# Altium integrated library Linear Technology Power Management Power Control.IntLib: 661 symbols (part 22 of 43)
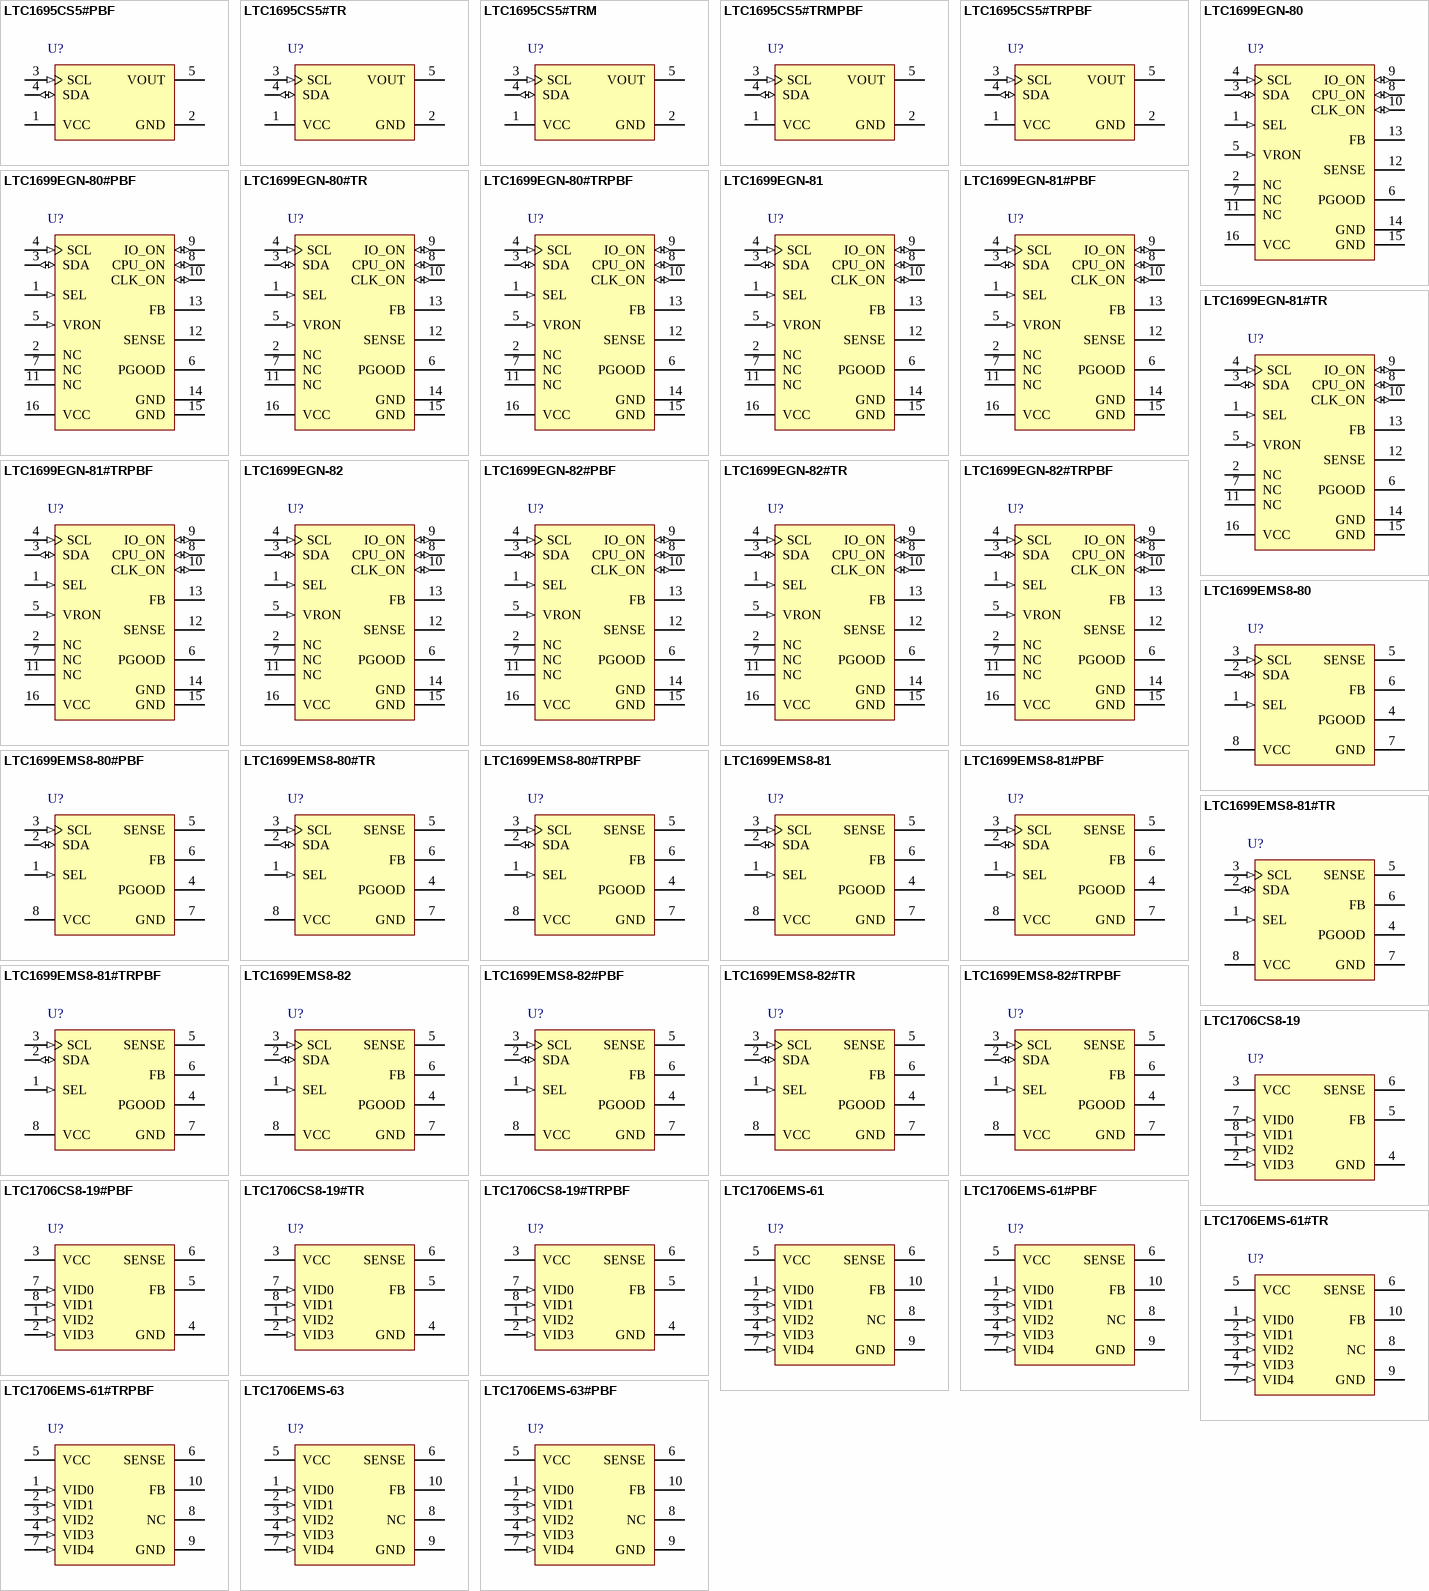
[diagram p40: symbols LTC1695CS5#PBF to LTC1706EMS-63#PBF]

## LTC1695CS5#TRM
designator U?
SMBus / I2C Fan Speed Controller, 5-pin SOT23 (S5-5), 0 to 70 degC, Mini Tape and Reel; Manufacturer: Linear Technology; PartNumber: LTC1695CS5#TRM; PackageVersion: Aug-07; PackageReference: S5-5; PackageDescription: 5-Pin Plastic SOT-23, Body 1.625 x 2.90 mm, Pitch 0.95 mm; Supplier 1: Digi-Key; Supplier Part Number 1: LTC1695CS5#TRM-ND; Packing: Mini Tape and Reel; RoHS: FALSE; Mounting Technology: Surface Mount; ComponentLink1Description: Manufacturer URL; ComponentLink1URL: http://www.linear.com/; ComponentLink2Description: Datasheet; ComponentLink2URL: http://cds.linear.com/docs/en/datasheet/1695f.pdf; ComponentLink3Description: Package Specification; ComponentLink3URL: http://cds.linear.com/docs/en/datasheet/17278fb.pdf
footprint LT-S5-5-SOT-23_N (SOT23, 5-Leads, Body 3x1.75mm, Pitch 0.95mm, IPC Medium Density)
footprint LT-S5-5-SOT-23_L (SOT23, 5-Leads, Body 3x1.75mm, Pitch 0.95mm, IPC High Density)
footprint LT-S5-5-SOT-23_M (SOT23, 5-Leads, Body 3x1.75mm, Pitch 0.95mm, IPC Low Density)
pins: 1 VCC (power) "Power Supply Input. VCC supplies current to the internal control circuitry, serves as the reference for the 6-bit DAC and acts as the power path for the P-channel low dropout linear regulator. Bypass VCC directly to ground (See Datasheet)", 2 GND (power) "Ground. Tie GND to the ground plane.", 3 SCL (in) "SMBus Clock Input. Data is shifted into SDA on the rising edge of the SCL clock signal during data transfer.", 4 SDA (io) "SMBus Bidirectional Data Input/Digital Output. SDA is an open drain output and requires a pull-up resistor or current source to VCC. Data is shifted into SDA and acknowledged by SDA.", 5 VOUT (power) "Linear Regulator Output. Connect directly to the fan’s +VE terminal. VOUT is set to VZS (code 0) on power-up. For good transient response and stability, use a general purpose, low cost, medium ESR (0.1ohm to 1ohm) tantalu(See Datasheet)"

## LTC1695CS5#TRMPBF
designator U?
SMBus / I2C Fan Speed Controller, 5-pin SOT23 (S5-5), 0 to 70 degC, Pb-Free, Mini Tape and Reel; Manufacturer: Linear Technology; PartNumber: LTC1695CS5#TRMPBF; PackageVersion: Aug-07; PackageReference: S5-5; PackageDescription: 5-Pin Plastic SOT-23, Body 1.625 x 2.90 mm, Pitch 0.95 mm; Supplier 1: Digi-Key; Supplier Part Number 1: LTC1695CS5#TRMPBF-ND; Packing: Mini Tape and Reel; RoHS: TRUE; Mounting Technology: Surface Mount; ComponentLink1Description: Manufacturer URL; ComponentLink1URL: http://www.linear.com/; ComponentLink2Description: Datasheet; ComponentLink2URL: http://cds.linear.com/docs/en/datasheet/1695f.pdf; ComponentLink3Description: Package Specification; ComponentLink3URL: http://cds.linear.com/docs/en/datasheet/17278fb.pdf
footprint LT-S5-5-SOT-23_N (SOT23, 5-Leads, Body 3x1.75mm, Pitch 0.95mm, IPC Medium Density)
footprint LT-S5-5-SOT-23_L (SOT23, 5-Leads, Body 3x1.75mm, Pitch 0.95mm, IPC High Density)
footprint LT-S5-5-SOT-23_M (SOT23, 5-Leads, Body 3x1.75mm, Pitch 0.95mm, IPC Low Density)
pins: 1 VCC (power) "Power Supply Input. VCC supplies current to the internal control circuitry, serves as the reference for the 6-bit DAC and acts as the power path for the P-channel low dropout linear regulator. Bypass VCC directly to ground (See Datasheet)", 2 GND (power) "Ground. Tie GND to the ground plane.", 3 SCL (in) "SMBus Clock Input. Data is shifted into SDA on the rising edge of the SCL clock signal during data transfer.", 4 SDA (io) "SMBus Bidirectional Data Input/Digital Output. SDA is an open drain output and requires a pull-up resistor or current source to VCC. Data is shifted into SDA and acknowledged by SDA.", 5 VOUT (power) "Linear Regulator Output. Connect directly to the fan’s +VE terminal. VOUT is set to VZS (code 0) on power-up. For good transient response and stability, use a general purpose, low cost, medium ESR (0.1ohm to 1ohm) tantalu(See Datasheet)"

## LTC1695CS5#TRPBF
designator U?
SMBus / I2C Fan Speed Controller, 5-pin SOT23 (S5-5), 0 to 70 degC, Pb-Free, Tape and Reel; Manufacturer: Linear Technology; PartNumber: LTC1695CS5#TRPBF; PackageVersion: Aug-07; PackageReference: S5-5; PackageDescription: 5-Pin Plastic SOT-23, Body 1.625 x 2.90 mm, Pitch 0.95 mm; Supplier 1: Digi-Key; Supplier Part Number 1: LTC1695CS5#TRPBF-ND; Supplier 2: Newark; Supplier Part Number 2: 56M3273; Packing: Tape and Reel; RoHS: TRUE; Mounting Technology: Surface Mount; ComponentLink1Description: Manufacturer URL; ComponentLink1URL: http://www.linear.com/; ComponentLink2Description: Datasheet; ComponentLink2URL: http://cds.linear.com/docs/en/datasheet/1695f.pdf; ComponentLink3Description: Package Specification; ComponentLink3URL: http://cds.linear.com/docs/en/datasheet/17278fb.pdf
footprint LT-S5-5-SOT-23_N (SOT23, 5-Leads, Body 3x1.75mm, Pitch 0.95mm, IPC Medium Density)
footprint LT-S5-5-SOT-23_L (SOT23, 5-Leads, Body 3x1.75mm, Pitch 0.95mm, IPC High Density)
footprint LT-S5-5-SOT-23_M (SOT23, 5-Leads, Body 3x1.75mm, Pitch 0.95mm, IPC Low Density)
pins: 1 VCC (power) "Power Supply Input. VCC supplies current to the internal control circuitry, serves as the reference for the 6-bit DAC and acts as the power path for the P-channel low dropout linear regulator. Bypass VCC directly to ground (See Datasheet)", 2 GND (power) "Ground. Tie GND to the ground plane.", 3 SCL (in) "SMBus Clock Input. Data is shifted into SDA on the rising edge of the SCL clock signal during data transfer.", 4 SDA (io) "SMBus Bidirectional Data Input/Digital Output. SDA is an open drain output and requires a pull-up resistor or current source to VCC. Data is shifted into SDA and acknowledged by SDA.", 5 VOUT (power) "Linear Regulator Output. Connect directly to the fan’s +VE terminal. VOUT is set to VZS (code 0) on power-up. For good transient response and stability, use a general purpose, low cost, medium ESR (0.1ohm to 1ohm) tantalu(See Datasheet)"

## LTC1699EGN-80
designator U?
SMBus VID Programmer, 2.7 to 5.5 V Vin, 16-pin SOP (GN-16), -40 to 85 degC; Manufacturer: Linear Technology; PartNumber: LTC1699EGN-80; PackageVersion: Rev. B, 03/2012; PackageReference: GN-16; PackageDescription: 16-Pin Plastic SSOP, Body 4.9 x 3.9 mm, Pitch 0.635 mm; Supplier 1: Digi-Key; Supplier Part Number 1: LTC1699EGN-80-ND; RoHS: FALSE; Mounting Technology: Surface Mount; ComponentLink1Description: Manufacturer URL; ComponentLink1URL: http://www.linear.com/; ComponentLink2Description: Datasheet; ComponentLink2URL: http://cds.linear.com/docs/en/datasheet/1699fs.pdf; ComponentLink3Description: Package Specification; ComponentLink3URL: http://cds.linear.com/docs/en/packaging/05081641_B_GN16.pdf
footprint LT-GN-16_N (SOP, 16-Leads, Body 5x4mm, Pitch 0.635mm, IPC Medium Density)
footprint LT-GN-16_L (SOP, 16-Leads, Body 5x4mm, Pitch 0.635mm, IPC High Density)
footprint LT-GN-16_M (SOP, 16-Leads, Body 5x4mm, Pitch 0.635mm, IPC Low Density)
pins: 1 SEL (in) "Register Select Input. A TTL compatible logic input pin that is used to select 1 of 2 resistor divider settings. SEL selects the setting in Register 0 if pulled low and the setting in Register 1 if pulled high.", 2 NC "Not connected.", 3 SDA (io) "SMBus Data Input/Output. SDA is a high impedance input when address, command or data bits are shifted in. It is an open drain, N-channel output when acknowledging or sending data back to the microprocessor during read-back. (See Datasheet)", 4 SCL (in) "SMBus Clock Input. Data at the SDA pin is latched into the LTC1699 at the rising edge of the clock and is shifted out of the SDA pin at the falling edge of the clock. SCL is a high impedance input pin. It is driven by the (See Datasheet)", 5 VRON (in) "Global Control Input. This TTL compatible input pin is pulled up internally by a 2.5mA current source. Pulling VRON low forces the open drain output pins (CPU_ON, IO_ON, CLK_ON and PGOOD) to pull to ground. If the (See Datasheet)", 6 PGOOD (hiz) "Power Good Output. This open drain output is pulled low for 50ms each time the LTC1699-80, LTC1699-81 or LTC1699-82 turns on the DC/DC converters or SEL is toggled to select a new code. PGOOD may be connected to the FCB (See Datasheet)", 7 NC "Not connected.", 8 CPU_ON (io) "CPU DC/DC Converter Control. Open drain output, usually connected to the RUN/SS pin of a DC/ DC converter that generates the CPU core supply. It pulls low to shut down the converter or becomes a high impedance state to allow (See Datasheet)", 9 IO_ON (io) "I/O DC/DC Converter Control. Open drain output, normally connected to the RUN/SS pin of the DC/ DC converter that generates the I/O supply. It pulls low to shut down the converter or becomes a high impedance state to allow (See Datasheet)", 10 CLK_ON (io) "Clock DC/DC Converter Control. Open drain output, optionally connected to the RUN/SS pin of the DC/DC converter that generates the supply for the clock buffer. It pulls low to shut down the converter or becomes a high (See Datasheet)", 11 NC "Not connected.", 12 SENSE "Sense Input. Upper terminal of the resistor divider that is connected directly to the output voltage being regulated.", 13 FB "Feedback Input. Center tap of the divider that is connected to the feedback pin of an LTC 0.8V referenced DC/DC converter.", 14 GND (power) "Ground. Connect to regulator signal ground.", 15 GND (power) "Divider Ground. Short to Pin 14.", 16 VCC (power) "Positive Supply. 2.7V =< VCC =< 5.5V. Bypass this pin to ground with a 0.1uF ceramic capacitor."

## LTC1699EGN-80#PBF
designator U?
SMBus VID Programmer, 2.7 to 5.5 V Vin, 16-pin SOP (GN-16), -40 to 85 degC, Pb-Free; Manufacturer: Linear Technology; PartNumber: LTC1699EGN-80#PBF; PackageVersion: Rev. B, 03/2012; PackageReference: GN-16; PackageDescription: 16-Pin Plastic SSOP, Body 4.9 x 3.9 mm, Pitch 0.635 mm; Supplier 1: Digi-Key; Supplier Part Number 1: LTC1699EGN-80#PBF-ND; RoHS: TRUE; Mounting Technology: Surface Mount; ComponentLink1Description: Manufacturer URL; ComponentLink1URL: http://www.linear.com/; ComponentLink2Description: Datasheet; ComponentLink2URL: http://cds.linear.com/docs/en/datasheet/1699fs.pdf; ComponentLink3Description: Package Specification; ComponentLink3URL: http://cds.linear.com/docs/en/packaging/05081641_B_GN16.pdf
footprint LT-GN-16_N (SOP, 16-Leads, Body 5x4mm, Pitch 0.635mm, IPC Medium Density)
footprint LT-GN-16_L (SOP, 16-Leads, Body 5x4mm, Pitch 0.635mm, IPC High Density)
footprint LT-GN-16_M (SOP, 16-Leads, Body 5x4mm, Pitch 0.635mm, IPC Low Density)
pins: 1 SEL (in) "Register Select Input. A TTL compatible logic input pin that is used to select 1 of 2 resistor divider settings. SEL selects the setting in Register 0 if pulled low and the setting in Register 1 if pulled high.", 2 NC "Not connected.", 3 SDA (io) "SMBus Data Input/Output. SDA is a high impedance input when address, command or data bits are shifted in. It is an open drain, N-channel output when acknowledging or sending data back to the microprocessor during read-back. (See Datasheet)", 4 SCL (in) "SMBus Clock Input. Data at the SDA pin is latched into the LTC1699 at the rising edge of the clock and is shifted out of the SDA pin at the falling edge of the clock. SCL is a high impedance input pin. It is driven by the (See Datasheet)", 5 VRON (in) "Global Control Input. This TTL compatible input pin is pulled up internally by a 2.5mA current source. Pulling VRON low forces the open drain output pins (CPU_ON, IO_ON, CLK_ON and PGOOD) to pull to ground. If the (See Datasheet)", 6 PGOOD (hiz) "Power Good Output. This open drain output is pulled low for 50ms each time the LTC1699-80, LTC1699-81 or LTC1699-82 turns on the DC/DC converters or SEL is toggled to select a new code. PGOOD may be connected to the FCB (See Datasheet)", 7 NC "Not connected.", 8 CPU_ON (io) "CPU DC/DC Converter Control. Open drain output, usually connected to the RUN/SS pin of a DC/ DC converter that generates the CPU core supply. It pulls low to shut down the converter or becomes a high impedance state to allow (See Datasheet)", 9 IO_ON (io) "I/O DC/DC Converter Control. Open drain output, normally connected to the RUN/SS pin of the DC/ DC converter that generates the I/O supply. It pulls low to shut down the converter or becomes a high impedance state to allow (See Datasheet)", 10 CLK_ON (io) "Clock DC/DC Converter Control. Open drain output, optionally connected to the RUN/SS pin of the DC/DC converter that generates the supply for the clock buffer. It pulls low to shut down the converter or becomes a high (See Datasheet)", 11 NC "Not connected.", 12 SENSE "Sense Input. Upper terminal of the resistor divider that is connected directly to the output voltage being regulated.", 13 FB "Feedback Input. Center tap of the divider that is connected to the feedback pin of an LTC 0.8V referenced DC/DC converter.", 14 GND (power) "Ground. Connect to regulator signal ground.", 15 GND (power) "Divider Ground. Short to Pin 14.", 16 VCC (power) "Positive Supply. 2.7V =< VCC =< 5.5V. Bypass this pin to ground with a 0.1uF ceramic capacitor."

## LTC1699EGN-80#TR
designator U?
SMBus VID Programmer, 2.7 to 5.5 V Vin, 16-pin SOP (GN-16), -40 to 85 degC, Tape and Reel; Manufacturer: Linear Technology; PartNumber: LTC1699EGN-80#TR; PackageVersion: Rev. B, 03/2012; PackageReference: GN-16; PackageDescription: 16-Pin Plastic SSOP, Body 4.9 x 3.9 mm, Pitch 0.635 mm; Supplier 1: Digi-Key; Supplier Part Number 1: LTC1699EGN-80#TR-ND; Packing: Tape and Reel; RoHS: FALSE; Mounting Technology: Surface Mount; ComponentLink1Description: Manufacturer URL; ComponentLink1URL: http://www.linear.com/; ComponentLink2Description: Datasheet; ComponentLink2URL: http://cds.linear.com/docs/en/datasheet/1699fs.pdf; ComponentLink3Description: Package Specification; ComponentLink3URL: http://cds.linear.com/docs/en/packaging/05081641_B_GN16.pdf
footprint LT-GN-16_N (SOP, 16-Leads, Body 5x4mm, Pitch 0.635mm, IPC Medium Density)
footprint LT-GN-16_L (SOP, 16-Leads, Body 5x4mm, Pitch 0.635mm, IPC High Density)
footprint LT-GN-16_M (SOP, 16-Leads, Body 5x4mm, Pitch 0.635mm, IPC Low Density)
pins: 1 SEL (in) "Register Select Input. A TTL compatible logic input pin that is used to select 1 of 2 resistor divider settings. SEL selects the setting in Register 0 if pulled low and the setting in Register 1 if pulled high.", 2 NC "Not connected.", 3 SDA (io) "SMBus Data Input/Output. SDA is a high impedance input when address, command or data bits are shifted in. It is an open drain, N-channel output when acknowledging or sending data back to the microprocessor during read-back. (See Datasheet)", 4 SCL (in) "SMBus Clock Input. Data at the SDA pin is latched into the LTC1699 at the rising edge of the clock and is shifted out of the SDA pin at the falling edge of the clock. SCL is a high impedance input pin. It is driven by the (See Datasheet)", 5 VRON (in) "Global Control Input. This TTL compatible input pin is pulled up internally by a 2.5mA current source. Pulling VRON low forces the open drain output pins (CPU_ON, IO_ON, CLK_ON and PGOOD) to pull to ground. If the (See Datasheet)", 6 PGOOD (hiz) "Power Good Output. This open drain output is pulled low for 50ms each time the LTC1699-80, LTC1699-81 or LTC1699-82 turns on the DC/DC converters or SEL is toggled to select a new code. PGOOD may be connected to the FCB (See Datasheet)", 7 NC "Not connected.", 8 CPU_ON (io) "CPU DC/DC Converter Control. Open drain output, usually connected to the RUN/SS pin of a DC/ DC converter that generates the CPU core supply. It pulls low to shut down the converter or becomes a high impedance state to allow (See Datasheet)", 9 IO_ON (io) "I/O DC/DC Converter Control. Open drain output, normally connected to the RUN/SS pin of the DC/ DC converter that generates the I/O supply. It pulls low to shut down the converter or becomes a high impedance state to allow (See Datasheet)", 10 CLK_ON (io) "Clock DC/DC Converter Control. Open drain output, optionally connected to the RUN/SS pin of the DC/DC converter that generates the supply for the clock buffer. It pulls low to shut down the converter or becomes a high (See Datasheet)", 11 NC "Not connected.", 12 SENSE "Sense Input. Upper terminal of the resistor divider that is connected directly to the output voltage being regulated.", 13 FB "Feedback Input. Center tap of the divider that is connected to the feedback pin of an LTC 0.8V referenced DC/DC converter.", 14 GND (power) "Ground. Connect to regulator signal ground.", 15 GND (power) "Divider Ground. Short to Pin 14.", 16 VCC (power) "Positive Supply. 2.7V =< VCC =< 5.5V. Bypass this pin to ground with a 0.1uF ceramic capacitor."

## LTC1699EGN-80#TRPBF
designator U?
SMBus VID Programmer, 2.7 to 5.5 V Vin, 16-pin SOP (GN-16), -40 to 85 degC, Pb-Free, Tape and Reel; Manufacturer: Linear Technology; PartNumber: LTC1699EGN-80#TRPBF; PackageVersion: Rev. B, 03/2012; PackageReference: GN-16; PackageDescription: 16-Pin Plastic SSOP, Body 4.9 x 3.9 mm, Pitch 0.635 mm; Supplier 1: Digi-Key; Supplier Part Number 1: LTC1699EGN-80#TRPBF-ND; Packing: Tape and Reel; RoHS: TRUE; Mounting Technology: Surface Mount; ComponentLink1Description: Manufacturer URL; ComponentLink1URL: http://www.linear.com/; ComponentLink2Description: Datasheet; ComponentLink2URL: http://cds.linear.com/docs/en/datasheet/1699fs.pdf; ComponentLink3Description: Package Specification; ComponentLink3URL: http://cds.linear.com/docs/en/packaging/05081641_B_GN16.pdf
footprint LT-GN-16_N (SOP, 16-Leads, Body 5x4mm, Pitch 0.635mm, IPC Medium Density)
footprint LT-GN-16_L (SOP, 16-Leads, Body 5x4mm, Pitch 0.635mm, IPC High Density)
footprint LT-GN-16_M (SOP, 16-Leads, Body 5x4mm, Pitch 0.635mm, IPC Low Density)
pins: 1 SEL (in) "Register Select Input. A TTL compatible logic input pin that is used to select 1 of 2 resistor divider settings. SEL selects the setting in Register 0 if pulled low and the setting in Register 1 if pulled high.", 2 NC "Not connected.", 3 SDA (io) "SMBus Data Input/Output. SDA is a high impedance input when address, command or data bits are shifted in. It is an open drain, N-channel output when acknowledging or sending data back to the microprocessor during read-back. (See Datasheet)", 4 SCL (in) "SMBus Clock Input. Data at the SDA pin is latched into the LTC1699 at the rising edge of the clock and is shifted out of the SDA pin at the falling edge of the clock. SCL is a high impedance input pin. It is driven by the (See Datasheet)", 5 VRON (in) "Global Control Input. This TTL compatible input pin is pulled up internally by a 2.5mA current source. Pulling VRON low forces the open drain output pins (CPU_ON, IO_ON, CLK_ON and PGOOD) to pull to ground. If the (See Datasheet)", 6 PGOOD (hiz) "Power Good Output. This open drain output is pulled low for 50ms each time the LTC1699-80, LTC1699-81 or LTC1699-82 turns on the DC/DC converters or SEL is toggled to select a new code. PGOOD may be connected to the FCB (See Datasheet)", 7 NC "Not connected.", 8 CPU_ON (io) "CPU DC/DC Converter Control. Open drain output, usually connected to the RUN/SS pin of a DC/ DC converter that generates the CPU core supply. It pulls low to shut down the converter or becomes a high impedance state to allow (See Datasheet)", 9 IO_ON (io) "I/O DC/DC Converter Control. Open drain output, normally connected to the RUN/SS pin of the DC/ DC converter that generates the I/O supply. It pulls low to shut down the converter or becomes a high impedance state to allow (See Datasheet)", 10 CLK_ON (io) "Clock DC/DC Converter Control. Open drain output, optionally connected to the RUN/SS pin of the DC/DC converter that generates the supply for the clock buffer. It pulls low to shut down the converter or becomes a high (See Datasheet)", 11 NC "Not connected.", 12 SENSE "Sense Input. Upper terminal of the resistor divider that is connected directly to the output voltage being regulated.", 13 FB "Feedback Input. Center tap of the divider that is connected to the feedback pin of an LTC 0.8V referenced DC/DC converter.", 14 GND (power) "Ground. Connect to regulator signal ground.", 15 GND (power) "Divider Ground. Short to Pin 14.", 16 VCC (power) "Positive Supply. 2.7V =< VCC =< 5.5V. Bypass this pin to ground with a 0.1uF ceramic capacitor."

## LTC1699EGN-81
designator U?
SMBus VID Programmer, 2.7 to 5.5 V Vin, 16-pin SOP (GN-16), -40 to 85 degC; Manufacturer: Linear Technology; PartNumber: LTC1699EGN-81; PackageVersion: Rev. B, 03/2012; PackageReference: GN-16; PackageDescription: 16-Pin Plastic SSOP, Body 4.9 x 3.9 mm, Pitch 0.635 mm; Supplier 1: Digi-Key; Supplier Part Number 1: LTC1699EGN-81-ND; RoHS: FALSE; Mounting Technology: Surface Mount; ComponentLink1Description: Manufacturer URL; ComponentLink1URL: http://www.linear.com/; ComponentLink2Description: Datasheet; ComponentLink2URL: http://cds.linear.com/docs/en/datasheet/1699fs.pdf; ComponentLink3Description: Package Specification; ComponentLink3URL: http://cds.linear.com/docs/en/packaging/05081641_B_GN16.pdf
footprint LT-GN-16_N (SOP, 16-Leads, Body 5x4mm, Pitch 0.635mm, IPC Medium Density)
footprint LT-GN-16_L (SOP, 16-Leads, Body 5x4mm, Pitch 0.635mm, IPC High Density)
footprint LT-GN-16_M (SOP, 16-Leads, Body 5x4mm, Pitch 0.635mm, IPC Low Density)
pins: 1 SEL (in) "Register Select Input. A TTL compatible logic input pin that is used to select 1 of 2 resistor divider settings. SEL selects the setting in Register 0 if pulled low and the setting in Register 1 if pulled high.", 2 NC "Not connected.", 3 SDA (io) "SMBus Data Input/Output. SDA is a high impedance input when address, command or data bits are shifted in. It is an open drain, N-channel output when acknowledging or sending data back to the microprocessor during read-back. (See Datasheet)", 4 SCL (in) "SMBus Clock Input. Data at the SDA pin is latched into the LTC1699 at the rising edge of the clock and is shifted out of the SDA pin at the falling edge of the clock. SCL is a high impedance input pin. It is driven by the (See Datasheet)", 5 VRON (in) "Global Control Input. This TTL compatible input pin is pulled up internally by a 2.5mA current source. Pulling VRON low forces the open drain output pins (CPU_ON, IO_ON, CLK_ON and PGOOD) to pull to ground. If the (See Datasheet)", 6 PGOOD (hiz) "Power Good Output. This open drain output is pulled low for 50ms each time the LTC1699-80, LTC1699-81 or LTC1699-82 turns on the DC/DC converters or SEL is toggled to select a new code. PGOOD may be connected to the FCB (See Datasheet)", 7 NC "Not connected.", 8 CPU_ON (io) "CPU DC/DC Converter Control. Open drain output, usually connected to the RUN/SS pin of a DC/ DC converter that generates the CPU core supply. It pulls low to shut down the converter or becomes a high impedance state to allow (See Datasheet)", 9 IO_ON (io) "I/O DC/DC Converter Control. Open drain output, normally connected to the RUN/SS pin of the DC/ DC converter that generates the I/O supply. It pulls low to shut down the converter or becomes a high impedance state to allow (See Datasheet)", 10 CLK_ON (io) "Clock DC/DC Converter Control. Open drain output, optionally connected to the RUN/SS pin of the DC/DC converter that generates the supply for the clock buffer. It pulls low to shut down the converter or becomes a high (See Datasheet)", 11 NC "Not connected.", 12 SENSE "Sense Input. Upper terminal of the resistor divider that is connected directly to the output voltage being regulated.", 13 FB "Feedback Input. Center tap of the divider that is connected to the feedback pin of an LTC 0.8V referenced DC/DC converter.", 14 GND (power) "Ground. Connect to regulator signal ground.", 15 GND (power) "Divider Ground. Short to Pin 14.", 16 VCC (power) "Positive Supply. 2.7V =< VCC =< 5.5V. Bypass this pin to ground with a 0.1uF ceramic capacitor."

## LTC1699EGN-81#PBF
designator U?
SMBus VID Programmer, 2.7 to 5.5 V Vin, 16-pin SOP (GN-16), -40 to 85 degC, Pb-Free; Manufacturer: Linear Technology; PartNumber: LTC1699EGN-81#PBF; PackageVersion: Rev. B, 03/2012; PackageReference: GN-16; PackageDescription: 16-Pin Plastic SSOP, Body 4.9 x 3.9 mm, Pitch 0.635 mm; Supplier 1: Digi-Key; Supplier Part Number 1: LTC1699EGN-81#PBF-ND; RoHS: TRUE; Mounting Technology: Surface Mount; ComponentLink1Description: Manufacturer URL; ComponentLink1URL: http://www.linear.com/; ComponentLink2Description: Datasheet; ComponentLink2URL: http://cds.linear.com/docs/en/datasheet/1699fs.pdf; ComponentLink3Description: Package Specification; ComponentLink3URL: http://cds.linear.com/docs/en/packaging/05081641_B_GN16.pdf
footprint LT-GN-16_N (SOP, 16-Leads, Body 5x4mm, Pitch 0.635mm, IPC Medium Density)
footprint LT-GN-16_L (SOP, 16-Leads, Body 5x4mm, Pitch 0.635mm, IPC High Density)
footprint LT-GN-16_M (SOP, 16-Leads, Body 5x4mm, Pitch 0.635mm, IPC Low Density)
pins: 1 SEL (in) "Register Select Input. A TTL compatible logic input pin that is used to select 1 of 2 resistor divider settings. SEL selects the setting in Register 0 if pulled low and the setting in Register 1 if pulled high.", 2 NC "Not connected.", 3 SDA (io) "SMBus Data Input/Output. SDA is a high impedance input when address, command or data bits are shifted in. It is an open drain, N-channel output when acknowledging or sending data back to the microprocessor during read-back. (See Datasheet)", 4 SCL (in) "SMBus Clock Input. Data at the SDA pin is latched into the LTC1699 at the rising edge of the clock and is shifted out of the SDA pin at the falling edge of the clock. SCL is a high impedance input pin. It is driven by the (See Datasheet)", 5 VRON (in) "Global Control Input. This TTL compatible input pin is pulled up internally by a 2.5mA current source. Pulling VRON low forces the open drain output pins (CPU_ON, IO_ON, CLK_ON and PGOOD) to pull to ground. If the (See Datasheet)", 6 PGOOD (hiz) "Power Good Output. This open drain output is pulled low for 50ms each time the LTC1699-80, LTC1699-81 or LTC1699-82 turns on the DC/DC converters or SEL is toggled to select a new code. PGOOD may be connected to the FCB (See Datasheet)", 7 NC "Not connected.", 8 CPU_ON (io) "CPU DC/DC Converter Control. Open drain output, usually connected to the RUN/SS pin of a DC/ DC converter that generates the CPU core supply. It pulls low to shut down the converter or becomes a high impedance state to allow (See Datasheet)", 9 IO_ON (io) "I/O DC/DC Converter Control. Open drain output, normally connected to the RUN/SS pin of the DC/ DC converter that generates the I/O supply. It pulls low to shut down the converter or becomes a high impedance state to allow (See Datasheet)", 10 CLK_ON (io) "Clock DC/DC Converter Control. Open drain output, optionally connected to the RUN/SS pin of the DC/DC converter that generates the supply for the clock buffer. It pulls low to shut down the converter or becomes a high (See Datasheet)", 11 NC "Not connected.", 12 SENSE "Sense Input. Upper terminal of the resistor divider that is connected directly to the output voltage being regulated.", 13 FB "Feedback Input. Center tap of the divider that is connected to the feedback pin of an LTC 0.8V referenced DC/DC converter.", 14 GND (power) "Ground. Connect to regulator signal ground.", 15 GND (power) "Divider Ground. Short to Pin 14.", 16 VCC (power) "Positive Supply. 2.7V =< VCC =< 5.5V. Bypass this pin to ground with a 0.1uF ceramic capacitor."

## LTC1699EGN-81#TR
designator U?
SMBus VID Programmer, 2.7 to 5.5 V Vin, 16-pin SOP (GN-16), -40 to 85 degC, Tape and Reel; Manufacturer: Linear Technology; PartNumber: LTC1699EGN-81#TR; PackageVersion: Rev. B, 03/2012; PackageReference: GN-16; PackageDescription: 16-Pin Plastic SSOP, Body 4.9 x 3.9 mm, Pitch 0.635 mm; Supplier 1: Digi-Key; Supplier Part Number 1: LTC1699EGN-81#TR-ND; Packing: Tape and Reel; RoHS: FALSE; Mounting Technology: Surface Mount; ComponentLink1Description: Manufacturer URL; ComponentLink1URL: http://www.linear.com/; ComponentLink2Description: Datasheet; ComponentLink2URL: http://cds.linear.com/docs/en/datasheet/1699fs.pdf; ComponentLink3Description: Package Specification; ComponentLink3URL: http://cds.linear.com/docs/en/packaging/05081641_B_GN16.pdf
footprint LT-GN-16_N (SOP, 16-Leads, Body 5x4mm, Pitch 0.635mm, IPC Medium Density)
footprint LT-GN-16_L (SOP, 16-Leads, Body 5x4mm, Pitch 0.635mm, IPC High Density)
footprint LT-GN-16_M (SOP, 16-Leads, Body 5x4mm, Pitch 0.635mm, IPC Low Density)
pins: 1 SEL (in) "Register Select Input. A TTL compatible logic input pin that is used to select 1 of 2 resistor divider settings. SEL selects the setting in Register 0 if pulled low and the setting in Register 1 if pulled high.", 2 NC "Not connected.", 3 SDA (io) "SMBus Data Input/Output. SDA is a high impedance input when address, command or data bits are shifted in. It is an open drain, N-channel output when acknowledging or sending data back to the microprocessor during read-back. (See Datasheet)", 4 SCL (in) "SMBus Clock Input. Data at the SDA pin is latched into the LTC1699 at the rising edge of the clock and is shifted out of the SDA pin at the falling edge of the clock. SCL is a high impedance input pin. It is driven by the (See Datasheet)", 5 VRON (in) "Global Control Input. This TTL compatible input pin is pulled up internally by a 2.5mA current source. Pulling VRON low forces the open drain output pins (CPU_ON, IO_ON, CLK_ON and PGOOD) to pull to ground. If the (See Datasheet)", 6 PGOOD (hiz) "Power Good Output. This open drain output is pulled low for 50ms each time the LTC1699-80, LTC1699-81 or LTC1699-82 turns on the DC/DC converters or SEL is toggled to select a new code. PGOOD may be connected to the FCB (See Datasheet)", 7 NC "Not connected.", 8 CPU_ON (io) "CPU DC/DC Converter Control. Open drain output, usually connected to the RUN/SS pin of a DC/ DC converter that generates the CPU core supply. It pulls low to shut down the converter or becomes a high impedance state to allow (See Datasheet)", 9 IO_ON (io) "I/O DC/DC Converter Control. Open drain output, normally connected to the RUN/SS pin of the DC/ DC converter that generates the I/O supply. It pulls low to shut down the converter or becomes a high impedance state to allow (See Datasheet)", 10 CLK_ON (io) "Clock DC/DC Converter Control. Open drain output, optionally connected to the RUN/SS pin of the DC/DC converter that generates the supply for the clock buffer. It pulls low to shut down the converter or becomes a high (See Datasheet)", 11 NC "Not connected.", 12 SENSE "Sense Input. Upper terminal of the resistor divider that is connected directly to the output voltage being regulated.", 13 FB "Feedback Input. Center tap of the divider that is connected to the feedback pin of an LTC 0.8V referenced DC/DC converter.", 14 GND (power) "Ground. Connect to regulator signal ground.", 15 GND (power) "Divider Ground. Short to Pin 14.", 16 VCC (power) "Positive Supply. 2.7V =< VCC =< 5.5V. Bypass this pin to ground with a 0.1uF ceramic capacitor."

## LTC1699EGN-81#TRPBF
designator U?
SMBus VID Programmer, 2.7 to 5.5 V Vin, 16-pin SOP (GN-16), -40 to 85 degC, Pb-Free, Tape and Reel; Manufacturer: Linear Technology; PartNumber: LTC1699EGN-81#TRPBF; PackageVersion: Rev. B, 03/2012; PackageReference: GN-16; PackageDescription: 16-Pin Plastic SSOP, Body 4.9 x 3.9 mm, Pitch 0.635 mm; Supplier 1: Digi-Key; Supplier Part Number 1: LTC1699EGN-81#TRPBF-ND; Packing: Tape and Reel; RoHS: TRUE; Mounting Technology: Surface Mount; ComponentLink1Description: Manufacturer URL; ComponentLink1URL: http://www.linear.com/; ComponentLink2Description: Datasheet; ComponentLink2URL: http://cds.linear.com/docs/en/datasheet/1699fs.pdf; ComponentLink3Description: Package Specification; ComponentLink3URL: http://cds.linear.com/docs/en/packaging/05081641_B_GN16.pdf
footprint LT-GN-16_N (SOP, 16-Leads, Body 5x4mm, Pitch 0.635mm, IPC Medium Density)
footprint LT-GN-16_L (SOP, 16-Leads, Body 5x4mm, Pitch 0.635mm, IPC High Density)
footprint LT-GN-16_M (SOP, 16-Leads, Body 5x4mm, Pitch 0.635mm, IPC Low Density)
pins: 1 SEL (in) "Register Select Input. A TTL compatible logic input pin that is used to select 1 of 2 resistor divider settings. SEL selects the setting in Register 0 if pulled low and the setting in Register 1 if pulled high.", 2 NC "Not connected.", 3 SDA (io) "SMBus Data Input/Output. SDA is a high impedance input when address, command or data bits are shifted in. It is an open drain, N-channel output when acknowledging or sending data back to the microprocessor during read-back. (See Datasheet)", 4 SCL (in) "SMBus Clock Input. Data at the SDA pin is latched into the LTC1699 at the rising edge of the clock and is shifted out of the SDA pin at the falling edge of the clock. SCL is a high impedance input pin. It is driven by the (See Datasheet)", 5 VRON (in) "Global Control Input. This TTL compatible input pin is pulled up internally by a 2.5mA current source. Pulling VRON low forces the open drain output pins (CPU_ON, IO_ON, CLK_ON and PGOOD) to pull to ground. If the (See Datasheet)", 6 PGOOD (hiz) "Power Good Output. This open drain output is pulled low for 50ms each time the LTC1699-80, LTC1699-81 or LTC1699-82 turns on the DC/DC converters or SEL is toggled to select a new code. PGOOD may be connected to the FCB (See Datasheet)", 7 NC "Not connected.", 8 CPU_ON (io) "CPU DC/DC Converter Control. Open drain output, usually connected to the RUN/SS pin of a DC/ DC converter that generates the CPU core supply. It pulls low to shut down the converter or becomes a high impedance state to allow (See Datasheet)", 9 IO_ON (io) "I/O DC/DC Converter Control. Open drain output, normally connected to the RUN/SS pin of the DC/ DC converter that generates the I/O supply. It pulls low to shut down the converter or becomes a high impedance state to allow (See Datasheet)", 10 CLK_ON (io) "Clock DC/DC Converter Control. Open drain output, optionally connected to the RUN/SS pin of the DC/DC converter that generates the supply for the clock buffer. It pulls low to shut down the converter or becomes a high (See Datasheet)", 11 NC "Not connected.", 12 SENSE "Sense Input. Upper terminal of the resistor divider that is connected directly to the output voltage being regulated.", 13 FB "Feedback Input. Center tap of the divider that is connected to the feedback pin of an LTC 0.8V referenced DC/DC converter.", 14 GND (power) "Ground. Connect to regulator signal ground.", 15 GND (power) "Divider Ground. Short to Pin 14.", 16 VCC (power) "Positive Supply. 2.7V =< VCC =< 5.5V. Bypass this pin to ground with a 0.1uF ceramic capacitor."

## LTC1699EGN-82
designator U?
SMBus VID Programmer, 2.7 to 5.5 V Vin, 16-pin SOP (GN-16), -40 to 85 degC; Manufacturer: Linear Technology; PartNumber: LTC1699EGN-82; PackageVersion: Rev. B, 03/2012; PackageReference: GN-16; PackageDescription: 16-Pin Plastic SSOP, Body 4.9 x 3.9 mm, Pitch 0.635 mm; Supplier 1: Digi-Key; Supplier Part Number 1: LTC1699EGN-82-ND; RoHS: FALSE; Mounting Technology: Surface Mount; ComponentLink1Description: Manufacturer URL; ComponentLink1URL: http://www.linear.com/; ComponentLink2Description: Datasheet; ComponentLink2URL: http://cds.linear.com/docs/en/datasheet/1699fs.pdf; ComponentLink3Description: Package Specification; ComponentLink3URL: http://cds.linear.com/docs/en/packaging/05081641_B_GN16.pdf
footprint LT-GN-16_N (SOP, 16-Leads, Body 5x4mm, Pitch 0.635mm, IPC Medium Density)
footprint LT-GN-16_L (SOP, 16-Leads, Body 5x4mm, Pitch 0.635mm, IPC High Density)
footprint LT-GN-16_M (SOP, 16-Leads, Body 5x4mm, Pitch 0.635mm, IPC Low Density)
pins: 1 SEL (in) "Register Select Input. A TTL compatible logic input pin that is used to select 1 of 2 resistor divider settings. SEL selects the setting in Register 0 if pulled low and the setting in Register 1 if pulled high.", 2 NC "Not connected.", 3 SDA (io) "SMBus Data Input/Output. SDA is a high impedance input when address, command or data bits are shifted in. It is an open drain, N-channel output when acknowledging or sending data back to the microprocessor during read-back. (See Datasheet)", 4 SCL (in) "SMBus Clock Input. Data at the SDA pin is latched into the LTC1699 at the rising edge of the clock and is shifted out of the SDA pin at the falling edge of the clock. SCL is a high impedance input pin. It is driven by the (See Datasheet)", 5 VRON (in) "Global Control Input. This TTL compatible input pin is pulled up internally by a 2.5mA current source. Pulling VRON low forces the open drain output pins (CPU_ON, IO_ON, CLK_ON and PGOOD) to pull to ground. If the (See Datasheet)", 6 PGOOD (hiz) "Power Good Output. This open drain output is pulled low for 50ms each time the LTC1699-80, LTC1699-81 or LTC1699-82 turns on the DC/DC converters or SEL is toggled to select a new code. PGOOD may be connected to the FCB (See Datasheet)", 7 NC "Not connected.", 8 CPU_ON (io) "CPU DC/DC Converter Control. Open drain output, usually connected to the RUN/SS pin of a DC/ DC converter that generates the CPU core supply. It pulls low to shut down the converter or becomes a high impedance state to allow (See Datasheet)", 9 IO_ON (io) "I/O DC/DC Converter Control. Open drain output, normally connected to the RUN/SS pin of the DC/ DC converter that generates the I/O supply. It pulls low to shut down the converter or becomes a high impedance state to allow (See Datasheet)", 10 CLK_ON (io) "Clock DC/DC Converter Control. Open drain output, optionally connected to the RUN/SS pin of the DC/DC converter that generates the supply for the clock buffer. It pulls low to shut down the converter or becomes a high (See Datasheet)", 11 NC "Not connected.", 12 SENSE "Sense Input. Upper terminal of the resistor divider that is connected directly to the output voltage being regulated.", 13 FB "Feedback Input. Center tap of the divider that is connected to the feedback pin of an LTC 0.8V referenced DC/DC converter.", 14 GND (power) "Ground. Connect to regulator signal ground.", 15 GND (power) "Divider Ground. Short to Pin 14.", 16 VCC (power) "Positive Supply. 2.7V =< VCC =< 5.5V. Bypass this pin to ground with a 0.1uF ceramic capacitor."

## LTC1699EGN-82#PBF
designator U?
SMBus VID Programmer, 2.7 to 5.5 V Vin, 16-pin SOP (GN-16), -40 to 85 degC, Pb-Free; Manufacturer: Linear Technology; PartNumber: LTC1699EGN-82#PBF; PackageVersion: Rev. B, 03/2012; PackageReference: GN-16; PackageDescription: 16-Pin Plastic SSOP, Body 4.9 x 3.9 mm, Pitch 0.635 mm; Supplier 1: Digi-Key; Supplier Part Number 1: LTC1699EGN-82#PBF-ND; RoHS: TRUE; Mounting Technology: Surface Mount; ComponentLink1Description: Manufacturer URL; ComponentLink1URL: http://www.linear.com/; ComponentLink2Description: Datasheet; ComponentLink2URL: http://cds.linear.com/docs/en/datasheet/1699fs.pdf; ComponentLink3Description: Package Specification; ComponentLink3URL: http://cds.linear.com/docs/en/packaging/05081641_B_GN16.pdf
footprint LT-GN-16_N (SOP, 16-Leads, Body 5x4mm, Pitch 0.635mm, IPC Medium Density)
footprint LT-GN-16_L (SOP, 16-Leads, Body 5x4mm, Pitch 0.635mm, IPC High Density)
footprint LT-GN-16_M (SOP, 16-Leads, Body 5x4mm, Pitch 0.635mm, IPC Low Density)
pins: 1 SEL (in) "Register Select Input. A TTL compatible logic input pin that is used to select 1 of 2 resistor divider settings. SEL selects the setting in Register 0 if pulled low and the setting in Register 1 if pulled high.", 2 NC "Not connected.", 3 SDA (io) "SMBus Data Input/Output. SDA is a high impedance input when address, command or data bits are shifted in. It is an open drain, N-channel output when acknowledging or sending data back to the microprocessor during read-back. (See Datasheet)", 4 SCL (in) "SMBus Clock Input. Data at the SDA pin is latched into the LTC1699 at the rising edge of the clock and is shifted out of the SDA pin at the falling edge of the clock. SCL is a high impedance input pin. It is driven by the (See Datasheet)", 5 VRON (in) "Global Control Input. This TTL compatible input pin is pulled up internally by a 2.5mA current source. Pulling VRON low forces the open drain output pins (CPU_ON, IO_ON, CLK_ON and PGOOD) to pull to ground. If the (See Datasheet)", 6 PGOOD (hiz) "Power Good Output. This open drain output is pulled low for 50ms each time the LTC1699-80, LTC1699-81 or LTC1699-82 turns on the DC/DC converters or SEL is toggled to select a new code. PGOOD may be connected to the FCB (See Datasheet)", 7 NC "Not connected.", 8 CPU_ON (io) "CPU DC/DC Converter Control. Open drain output, usually connected to the RUN/SS pin of a DC/ DC converter that generates the CPU core supply. It pulls low to shut down the converter or becomes a high impedance state to allow (See Datasheet)", 9 IO_ON (io) "I/O DC/DC Converter Control. Open drain output, normally connected to the RUN/SS pin of the DC/ DC converter that generates the I/O supply. It pulls low to shut down the converter or becomes a high impedance state to allow (See Datasheet)", 10 CLK_ON (io) "Clock DC/DC Converter Control. Open drain output, optionally connected to the RUN/SS pin of the DC/DC converter that generates the supply for the clock buffer. It pulls low to shut down the converter or becomes a high (See Datasheet)", 11 NC "Not connected.", 12 SENSE "Sense Input. Upper terminal of the resistor divider that is connected directly to the output voltage being regulated.", 13 FB "Feedback Input. Center tap of the divider that is connected to the feedback pin of an LTC 0.8V referenced DC/DC converter.", 14 GND (power) "Ground. Connect to regulator signal ground.", 15 GND (power) "Divider Ground. Short to Pin 14.", 16 VCC (power) "Positive Supply. 2.7V =< VCC =< 5.5V. Bypass this pin to ground with a 0.1uF ceramic capacitor."

## LTC1699EGN-82#TR
designator U?
SMBus VID Programmer, 2.7 to 5.5 V Vin, 16-pin SOP (GN-16), -40 to 85 degC, Tape and Reel; Manufacturer: Linear Technology; PartNumber: LTC1699EGN-82#TR; PackageVersion: Rev. B, 03/2012; PackageReference: GN-16; PackageDescription: 16-Pin Plastic SSOP, Body 4.9 x 3.9 mm, Pitch 0.635 mm; Supplier 1: Digi-Key; Supplier Part Number 1: LTC1699EGN-82#TR-ND; Packing: Tape and Reel; RoHS: FALSE; Mounting Technology: Surface Mount; ComponentLink1Description: Manufacturer URL; ComponentLink1URL: http://www.linear.com/; ComponentLink2Description: Datasheet; ComponentLink2URL: http://cds.linear.com/docs/en/datasheet/1699fs.pdf; ComponentLink3Description: Package Specification; ComponentLink3URL: http://cds.linear.com/docs/en/packaging/05081641_B_GN16.pdf
footprint LT-GN-16_N (SOP, 16-Leads, Body 5x4mm, Pitch 0.635mm, IPC Medium Density)
footprint LT-GN-16_L (SOP, 16-Leads, Body 5x4mm, Pitch 0.635mm, IPC High Density)
footprint LT-GN-16_M (SOP, 16-Leads, Body 5x4mm, Pitch 0.635mm, IPC Low Density)
pins: 1 SEL (in) "Register Select Input. A TTL compatible logic input pin that is used to select 1 of 2 resistor divider settings. SEL selects the setting in Register 0 if pulled low and the setting in Register 1 if pulled high.", 2 NC "Not connected.", 3 SDA (io) "SMBus Data Input/Output. SDA is a high impedance input when address, command or data bits are shifted in. It is an open drain, N-channel output when acknowledging or sending data back to the microprocessor during read-back. (See Datasheet)", 4 SCL (in) "SMBus Clock Input. Data at the SDA pin is latched into the LTC1699 at the rising edge of the clock and is shifted out of the SDA pin at the falling edge of the clock. SCL is a high impedance input pin. It is driven by the (See Datasheet)", 5 VRON (in) "Global Control Input. This TTL compatible input pin is pulled up internally by a 2.5mA current source. Pulling VRON low forces the open drain output pins (CPU_ON, IO_ON, CLK_ON and PGOOD) to pull to ground. If the (See Datasheet)", 6 PGOOD (hiz) "Power Good Output. This open drain output is pulled low for 50ms each time the LTC1699-80, LTC1699-81 or LTC1699-82 turns on the DC/DC converters or SEL is toggled to select a new code. PGOOD may be connected to the FCB (See Datasheet)", 7 NC "Not connected.", 8 CPU_ON (io) "CPU DC/DC Converter Control. Open drain output, usually connected to the RUN/SS pin of a DC/ DC converter that generates the CPU core supply. It pulls low to shut down the converter or becomes a high impedance state to allow (See Datasheet)", 9 IO_ON (io) "I/O DC/DC Converter Control. Open drain output, normally connected to the RUN/SS pin of the DC/ DC converter that generates the I/O supply. It pulls low to shut down the converter or becomes a high impedance state to allow (See Datasheet)", 10 CLK_ON (io) "Clock DC/DC Converter Control. Open drain output, optionally connected to the RUN/SS pin of the DC/DC converter that generates the supply for the clock buffer. It pulls low to shut down the converter or becomes a high (See Datasheet)", 11 NC "Not connected.", 12 SENSE "Sense Input. Upper terminal of the resistor divider that is connected directly to the output voltage being regulated.", 13 FB "Feedback Input. Center tap of the divider that is connected to the feedback pin of an LTC 0.8V referenced DC/DC converter.", 14 GND (power) "Ground. Connect to regulator signal ground.", 15 GND (power) "Divider Ground. Short to Pin 14.", 16 VCC (power) "Positive Supply. 2.7V =< VCC =< 5.5V. Bypass this pin to ground with a 0.1uF ceramic capacitor."

## LTC1699EGN-82#TRPBF
designator U?
SMBus VID Programmer, 2.7 to 5.5 V Vin, 16-pin SOP (GN-16), -40 to 85 degC, Pb-Free, Tape and Reel; Manufacturer: Linear Technology; PartNumber: LTC1699EGN-82#TRPBF; PackageVersion: Rev. B, 03/2012; PackageReference: GN-16; PackageDescription: 16-Pin Plastic SSOP, Body 4.9 x 3.9 mm, Pitch 0.635 mm; Supplier 1: Digi-Key; Supplier Part Number 1: LTC1699EGN-82#TRPBF-ND; Packing: Tape and Reel; RoHS: TRUE; Mounting Technology: Surface Mount; ComponentLink1Description: Manufacturer URL; ComponentLink1URL: http://www.linear.com/; ComponentLink2Description: Datasheet; ComponentLink2URL: http://cds.linear.com/docs/en/datasheet/1699fs.pdf; ComponentLink3Description: Package Specification; ComponentLink3URL: http://cds.linear.com/docs/en/packaging/05081641_B_GN16.pdf
footprint LT-GN-16_N (SOP, 16-Leads, Body 5x4mm, Pitch 0.635mm, IPC Medium Density)
footprint LT-GN-16_L (SOP, 16-Leads, Body 5x4mm, Pitch 0.635mm, IPC High Density)
footprint LT-GN-16_M (SOP, 16-Leads, Body 5x4mm, Pitch 0.635mm, IPC Low Density)
pins: 1 SEL (in) "Register Select Input. A TTL compatible logic input pin that is used to select 1 of 2 resistor divider settings. SEL selects the setting in Register 0 if pulled low and the setting in Register 1 if pulled high.", 2 NC "Not connected.", 3 SDA (io) "SMBus Data Input/Output. SDA is a high impedance input when address, command or data bits are shifted in. It is an open drain, N-channel output when acknowledging or sending data back to the microprocessor during read-back. (See Datasheet)", 4 SCL (in) "SMBus Clock Input. Data at the SDA pin is latched into the LTC1699 at the rising edge of the clock and is shifted out of the SDA pin at the falling edge of the clock. SCL is a high impedance input pin. It is driven by the (See Datasheet)", 5 VRON (in) "Global Control Input. This TTL compatible input pin is pulled up internally by a 2.5mA current source. Pulling VRON low forces the open drain output pins (CPU_ON, IO_ON, CLK_ON and PGOOD) to pull to ground. If the (See Datasheet)", 6 PGOOD (hiz) "Power Good Output. This open drain output is pulled low for 50ms each time the LTC1699-80, LTC1699-81 or LTC1699-82 turns on the DC/DC converters or SEL is toggled to select a new code. PGOOD may be connected to the FCB (See Datasheet)", 7 NC "Not connected.", 8 CPU_ON (io) "CPU DC/DC Converter Control. Open drain output, usually connected to the RUN/SS pin of a DC/ DC converter that generates the CPU core supply. It pulls low to shut down the converter or becomes a high impedance state to allow (See Datasheet)", 9 IO_ON (io) "I/O DC/DC Converter Control. Open drain output, normally connected to the RUN/SS pin of the DC/ DC converter that generates the I/O supply. It pulls low to shut down the converter or becomes a high impedance state to allow (See Datasheet)", 10 CLK_ON (io) "Clock DC/DC Converter Control. Open drain output, optionally connected to the RUN/SS pin of the DC/DC converter that generates the supply for the clock buffer. It pulls low to shut down the converter or becomes a high (See Datasheet)", 11 NC "Not connected.", 12 SENSE "Sense Input. Upper terminal of the resistor divider that is connected directly to the output voltage being regulated.", 13 FB "Feedback Input. Center tap of the divider that is connected to the feedback pin of an LTC 0.8V referenced DC/DC converter.", 14 GND (power) "Ground. Connect to regulator signal ground.", 15 GND (power) "Divider Ground. Short to Pin 14.", 16 VCC (power) "Positive Supply. 2.7V =< VCC =< 5.5V. Bypass this pin to ground with a 0.1uF ceramic capacitor."